# Altium schematic symbol library pir.SCHLIB: 19 symbols
Pins are listed as number, name and electrical type; pins without a type are passive.

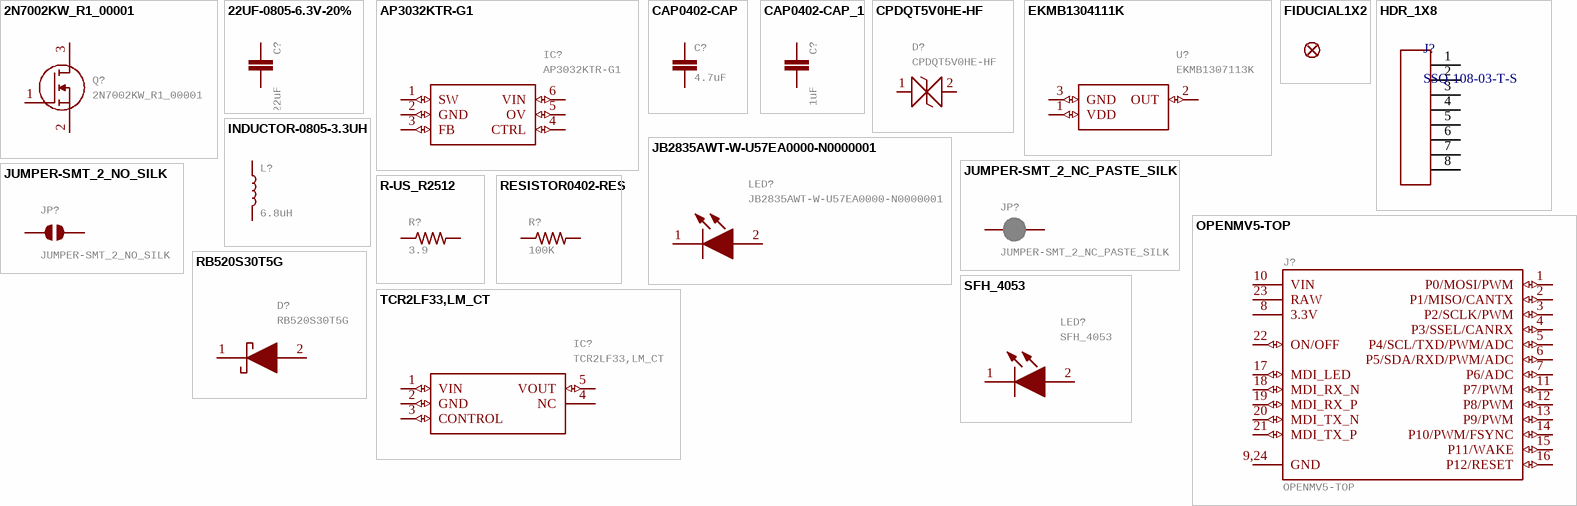
[diagram p0: symbols 2N7002KW_R1_00001 to TCR2LF33,LM_CT]

## 2N7002KW_R1_00001
designator Q?
MOSFET 60V N-Channel Enhancement Mode MOSFET - ESD Protected   Source:  Datasheet; MANUFACTURER_NAME: PANJIT; GateName_1: G$1; SymbolName_1: 2N7002KW_R1_00001; LibraryName: 2N7002KW_R1_00001; DeviceSetName: 2N7002KW_R1_00001; HEIGHT: 1.1mm; MANUFACTURER_PART_NUMBER: 2N7002KW_R1_00001; MOUSER_PART_NUMBER: 241-2N7002KWR100001; MOUSER_PRICE-STOCK: https://www.mouser.co.uk/ProductDetail/Panjit/2N7002KW_R1_00001?qs=sPbYRqrBIVliWKATqv7jNA%3D%3D; MPN: 2N7002KW_R1_00001
footprint SOT65P210X110-3N
pins: 1 G (io), 2 S (io), 3 D (io)

## 22UF-0805-6.3V-20%
designator C?, comment 22uF
22ÂµF ceramic capacitors    A capacitor is a passive two-terminal electrical component used to store electrical energy temporarily in an electric field.; MPN: CL21A226MQQNNNE; GateName_1: G$1; SymbolName_1: CAP; DeviceName: -0805-6.3V-20%; PROD_ID: CAP-08402; LibraryName: SparkFun-Capacitors; DeviceSetName: 22UF
footprint 0805
pins: 1, 2

## AP3032KTR-G1
designator IC?
DiodesZetex AP3032KTR-G1, Step Up DC-DC Converter, Adjustable, Maximum of 38 V, 6-Pin SOT-23   Source:  Datasheet; MANUFACTURER_NAME: Diodes Inc.; GateName_1: G$1; SymbolName_1: AP3032KTR-G1; LibraryName: AP3032KTR-G1; DeviceSetName: AP3032KTR-G1; HEIGHT: 1.45mm; MANUFACTURER_PART_NUMBER: AP3032KTR-G1; MOUSER_PART_NUMBER: 621-AP3032KTR-G1; MOUSER_PRICE-STOCK: https://www.mouser.co.uk/ProductDetail/Diodes-Incorporated/AP3032KTR-G1?qs=x6A8l6qLYDBKP%252BiASla%2FZw%3D%3D; MPN: AP3032KTR-G1
footprint SOT95P280X145-6N
pins: 1 SW (io), 2 GND (io), 3 FB (io), 4 CTRL (io), 5 OV (io), 6 VIN (io)

## CAP0402-CAP
designator C?, comment 4.7uF
CapacitorStandard 0603 ceramic capacitor, and 0.1" leaded capacitor.; MPN: JMK105BBJ475MV-F; GateName_1: G$1; SymbolName_1: CAP; DeviceName: 0402-CAP; LibraryName: sfe; DeviceSetName: CAP
footprint 0402-CAP
pins: 1, 2

## CAP0402-CAP_1
designator C?, comment 1uF
CapacitorStandard 0603 ceramic capacitor, and 0.1" leaded capacitor.; MPN: GRM155R6YA105KE11D; GateName_1: G$1; SymbolName_1: CAP; DeviceName: 0402-CAP; LibraryName: sfe; DeviceSetName: CAP
footprint 0402-CAP
pins: 1, 2

## CPDQT5V0HE-HF
designator D?
ESD Suppressors / TVS Diodes DIODE ESD 5VWM 65W 0402/SOD-923F   Source:  Datasheet; MANUFACTURER_NAME: Comchip Technology; GateName_1: G$1; SymbolName_1: CPDQT5V0HE-HF; LibraryName: CPDQT5V0HE-HF; DeviceSetName: CPDQT5V0HE-HF; HEIGHT: 0.42mm; MANUFACTURER_PART_NUMBER: CPDQT5V0HE-HF; MOUSER_PART_NUMBER: MOUSER_PART_NUMBER; MOUSER_PRICE-STOCK: MOUSER_PRICE-STOCK; MPN: CPDQT5V0HE-HF
footprint CPDQT5V0HEHF
pins: 1 (io), 2 (io)

## EKMB1304111K
designator U?, comment EKMB1307113K
Sensor PIR (Passive Infrared) 472" (12m) 39.4'  Module   Source:  Datasheet; MANUFACTURER_NAME: Panasonic; GateName_1: G$1; SymbolName_1: EKMB1304111K; LibraryName: EKMB1304111K; DeviceSetName: EKMB1304111K; HEIGHT: 20.7mm; MANUFACTURER_PART_NUMBER: EKMB1304111K; MOUSER_PART_NUMBER: 769-EKMB1304111K; MOUSER_PRICE-STOCK: https://www.mouser.co.uk/ProductDetail/Panasonic-Industrial-Devices/EKMB1304111K?qs=gtWD0wcPNfNnxnKOQp2%252BgA%3D%3D; MPN: EKMB1307113K
footprint EKMB1304111K
pins: 1 VDD (io), 2 OUT (io), 3 GND (io)

## FIDUCIAL1X2
designator FD?  (value not drawn)
Fiducial Alignment Points    Point-of-reference for pick-and-place machines and other optical instruments.; GateName_1: G$1; DeviceName: 1X2; SymbolName_1: FIDUCIAL; LibraryName: SparkFun-Aesthetics; DeviceSetName: FIDUCIAL
footprint FIDUCIAL-1X2

## HDR_1X8
designator J?, comment SSQ-108-03-T-S
MANUFACTURER P/N: SSQ-108-03-T-S
footprint HDR_1X8
pins: 1, 2, 3, 4, 5, 6, 7, 8

## INDUCTOR-0805-3.3UH
designator L?, comment 6.8uH
Inductors    Resist changes in electrical current. Basically a coil of wire.   SparkFun Products:  SparkFun Load Cell Amplifier - HX711  IOIO-OTG - V2.2; MPN: MLZ2012M6R8WT000; GateName_1: G$1; DeviceName: -0805-3.3UH; PROD_ID: NDUC-13076; SymbolName_1: INDUCTOR; LibraryName: SparkFun-Coils; DeviceSetName: INDUCTOR
footprint 0805
pins: 1, 2

## JB2835AWT-W-U57EA0000-N0000001
designator LED?
Mid-Power LEDs - White White 5700 K 90-CRI, 2835 Size, W Class   Source:  Datasheet; MANUFACTURER_NAME: Wolfspeed; GateName_1: G$1; SymbolName_1: JB2835AWT-W-U57EA0000-N0000001; LibraryName: JB2835AWT-W-U57EA0000-N0000001; DeviceSetName: JB2835AWT-W-U57EA0000-N0000001; HEIGHT: 0.8mm; MANUFACTURER_PART_NUMBER: JB2835AWT-W-U57EA0000-N0000001; MOUSER_PART_NUMBER: 941-JB2835AWTU57EAN; MOUSER_PRICE-STOCK: https://www.mouser.co.uk/ProductDetail/Cree-LED/JB2835AWT-W-U57EA0000-N0000001?qs=7MVldsJ5UaxVpdW62VaK8g%3D%3D; MPN: JB2835AWT-W-U57EA0000-N0000001
footprint JB2835AWTWU57EA0000N0000001
pins: 1 K (io), 2 A (io)

## JUMPER-SMT_2_NC_PASTE_SILK
designator JP?
Normally closed solder jumper    This jumper has an aperture in the stencil to allow solder paste to bridge the split in the wire so it's normally closed (NC). Wick off the solder to open the connection. Reapply solder to reclose the connection.; GateName_1: G$1; SymbolName_1: SMT-JUMPER_2_NC_PASTE; DeviceName: _SILK; LibraryName: SparkFun-Jumpers; DeviceSetName: JUMPER-SMT_2_NC_PASTE
footprint SMT-JUMPER_2_NC_PASTE_SILK
pins: 1, 2

## JUMPER-SMT_2_NO_SILK
designator JP?
Normally open jumper    This jumper has two pads in close proximity to each other. Apply solder to close the connection.   Round pads are easier to solder for beginners, but are a lot larger.   SparkFun Product that uses the round pads:  SparkFun EL Sequencer; GateName_1: G$1; SymbolName_1: SMT-JUMPER_2_NO; DeviceName: _SILK; LibraryName: SparkFun-Jumpers; DeviceSetName: JUMPER-SMT_2_NO
footprint SMT-JUMPER_2_NO_SILK
pins: 1, 2

## OPENMV5-TOP
designator J?
GateName_1: G$1; SymbolName_1: OPENMV5; LibraryName: openmv5; DeviceSetName: OPENMV5-TOP
footprint OPENMV5-TOP
pins: 1 P0/MOSI/PWM (io), 2 P1/MISO/CANTX (io), 3 P2/SCLK/PWM (io), 4 P3/SSEL/CANRX (io), 5 P4/SCL/TXD/PWM/ADC (io), 6 P5/SDA/RXD/PWM/ADC (io), 7 P6/ADC (io), 8 3.3V (power), 9,24 GND (power), 10 VIN (power), 11 P7/PWM (io), 12 P8/PWM (io), 13 P9/PWM (io), 14 P10/PWM/FSYNC (io), 15 P11/WAKE (io), 16 P12/RESET (io), 17 MDI_LED (io), 18 MDI_RX_N (io), 19 MDI_RX_P (io), 20 MDI_TX_N (io), 21 MDI_TX_P (io), 22 ON/OFF (io), 23 RAW (power)

## R-US_R2512
designator R?, comment 3.9
RESISTOR, American symbol; MPN: 35203R9JT; GateName_1: G$1; SymbolName_1: R-US; DeviceName: R2512; DeviceSetName: R-US_; POPULARITY: 0; LibraryName: rcl; SPICEPREFIX: R
footprint R2512
pins: 1, 2

## RB520S30T5G
designator D?
Diode Schottky 30V 0.2A Automotive 2-Pin SOD-523 T/R   Source:  Datasheet; MANUFACTURER_NAME: onsemi; GateName_1: G$1; SymbolName_1: RB520S30T5G; LibraryName: RB520S30T5G; DeviceSetName: RB520S30T5G; HEIGHT: 0.7mm; MANUFACTURER_PART_NUMBER: RB520S30T5G; MOUSER_PART_NUMBER: 863-RB520S30T5G; MOUSER_PRICE-STOCK: https://www.mouser.co.uk/ProductDetail/onsemi/RB520S30T5G?qs=M3GgpExcU29g6z8VWjIiaA%3D%3D; MPN: RB520S30T5G
footprint SODFL1608X70N
pins: 1 K (io), 2 A (io)

## RESISTOR0402-RES
designator R?, comment 100K
ResistorBasic schematic elements and footprints for 0603, 1206, and PTH resistors.; MPN: AC0402FR-07100KL; GateName_1: G$1; DeviceName: 0402-RES; SymbolName_1: RESISTOR; LibraryName: sfe; DeviceSetName: RESISTOR
footprint 0402-RES
pins: 1, 2

## SFH_4053
designator LED?
IR Emitter,High Power,CHIPLED,850nm,140d Osram Opto SFH 4053 CHIPLED IR LED, 860nm, 0402 SMD package   Source:  Datasheet; GateName_1: G$1; SymbolName_1: SFH_4053; LibraryName: SFH_4053; DeviceSetName: SFH_4053; HEIGHT: 0.55mm; MANUFACTURER_NAME: OSRAM; MANUFACTURER_PART_NUMBER: SFH 4053; MOUSER_PART_NUMBER: 720-SFH4053; MOUSER_PRICE-STOCK: https://www.mouser.co.uk/ProductDetail/OSRAM-Opto-Semiconductors/SFH-4053?qs=WFZtTl33IYKBVpRycaqUAw%3D%3D; MPN: SFH 4053
footprint LEDC1005X55N
pins: 1 K (io), 2 A (io)

## TCR2LF33,LM_CT
designator IC?
Linear Voltage Regulator IC Positive Fixed 1 Output 200mA SMV   Source:  Datasheet; MANUFACTURER_NAME: Toshiba; MANUFACTURER_PART_NUMBER: TCR2LF33,LM(CT; GateName_1: G$1; SymbolName_1: TCR2LF33,LM_CT; LibraryName: TCR2LF33_LM_CT; DeviceSetName: TCR2LF33,LM_CT; HEIGHT: 1.4mm; MOUSER_PART_NUMBER: 757-TCR2LF33LMCT; MOUSER_PRICE-STOCK: https://www.mouser.co.uk/ProductDetail/Toshiba/TCR2LF33LMCT?qs=lX6dEUlT%252BgfjY8NAoxAO5A%3D%3D; MPN: TCR2LF33,LM(CT
footprint TCR2LF33LMCT
pins: 1 VIN (io), 2 GND (io), 3 CONTROL (io), 4 NC, 5 VOUT (io)